# Altium footprint library LFCSP-8_3x3x05P.PcbLib: 1 footprints
Each footprint in its own frame and in the unit in brackets; x right, y up, seen from the top. Pads: shape width x height; smd on the part's side, far side on the other; paste and mask are expansions set on the pad; w line width, h text height; cw(c..) or ccw(c..) is an arc to the next point about the centre after c.
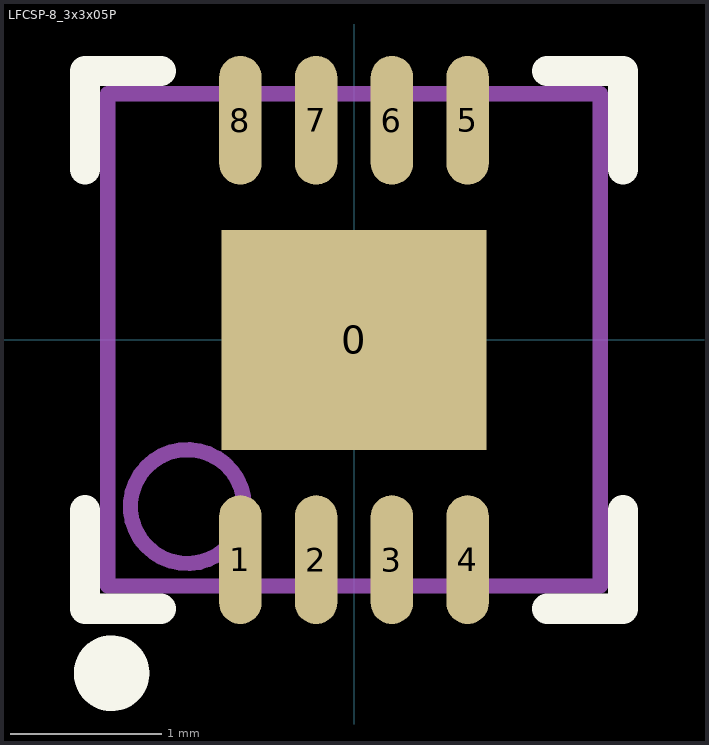
[diagram p0: the footprint, top view; thin cyan lines are the x and y axes]

## LFCSP-8_3x3x05P [mm]
pads (9):
  rect 1.75x1.45 smd mask+0.051: 0(0,0)
  oval 0.28x0.85 smd mask+0.051: 1(-0.75,-1.45) 2(-0.25,-1.45) 3(0.25,-1.45) 4(0.75,-1.45) 5(0.75,1.45) 6(0.25,1.45) 7(-0.25,1.45) 8(-0.75,1.45)
Top Overlay:
  circle w0.25: c-1.6,-2.2 r0.125
  lines w0.2: -1.775,-1.125 -1.775,-1.775 -1.275,-1.775 ; -1.775,1.125 -1.775,1.775 -1.275,1.775 ; 1.275,-1.775 1.775,-1.775 1.775,-1.125 ; 1.275,1.775 1.775,1.775 1.775,1.125
Mechanical 13:
  circle w0.1: c-1.1,-1.1 r0.376
  lines w0.1: -1.625,-1.625 1.625,-1.625 1.625,1.625 -1.625,1.625 -1.625,-1.625